# Altium schematic symbol library SS5P10.SchLib: 1 symbol
Pins are listed as number, name and electrical type; pins without a type are passive.

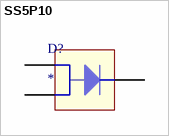
[diagram p0: symbol SS5P10]

## SS5P10
designator D?
High Current Density Surface Mount  Schottky Barrier Rectifiers
pins: 1 A, 2 A, 3 K